# EAGLE library part 74*122 (library U-7400)
Retriggerable monostable MULTIVIBRATOR
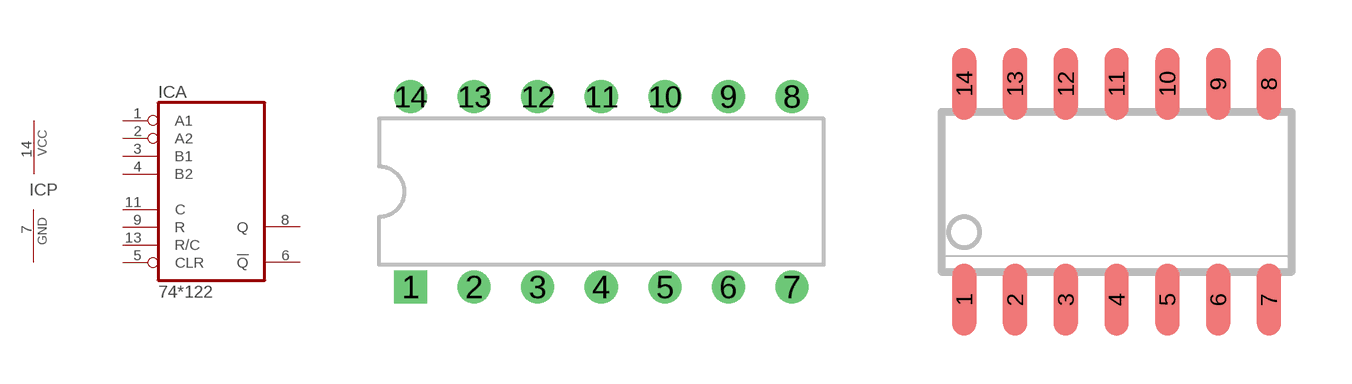
[diagram p44: symbol with the pads of 14DIP; footprints 14DIP, 14SOIC]

Designator prefix IC; gates A=74122 P=PWRN

## 74LS122N  [14DIP]
1  A:A1  in
2  A:A2  in
3  A:B1  in
4  A:B2  in
5  A:CLR  in
6  A:!Q  out
7  P:GND  pwr
8  A:Q  out
9  A:R  in
11  A:C  in
13  A:R/C  in
14  P:VCC  sup

## 74LS122D  [14SOIC]
Pads as for 14DIP

## Footprint 14DIP (pad centres in mm)
14POS Dual In-line Package
drill 0.813 square: 1 -7.62,-3.81
drill 0.813: 2 -5.08,-3.81; 3 -2.54,-3.81; 4 0,-3.81; 5 2.54,-3.81; 6 5.08,-3.81; 7 7.62,-3.81; 8 7.62,3.81; 9 5.08,3.81; 10 2.54,3.81; 11 0,3.81; 12 -2.54,3.81; 13 -5.08,3.81; 14 -7.62,3.81

## Footprint 14SOIC (pad centres in mm)
14POS SMALL OUTLINE (14SO[IC]) pitch 1.27 pad .6mm X1.8mm body-Center to pad-Center 2.7mm referance TI's SOIC package, but pads are little larger and rounded
smd 0.6 x 1.8: 1 -3.81,-2.7; 2 -2.54,-2.7; 3 -1.27,-2.7; 4 0,-2.7; 5 1.27,-2.7; 6 2.54,-2.7; 7 3.81,-2.7; 8 3.81,2.7; 9 2.54,2.7; 10 1.27,2.7; 11 0,2.7; 12 -1.27,2.7; 13 -2.54,2.7; 14 -3.81,2.7